# EAGLE library part MICROSD (library Misc)
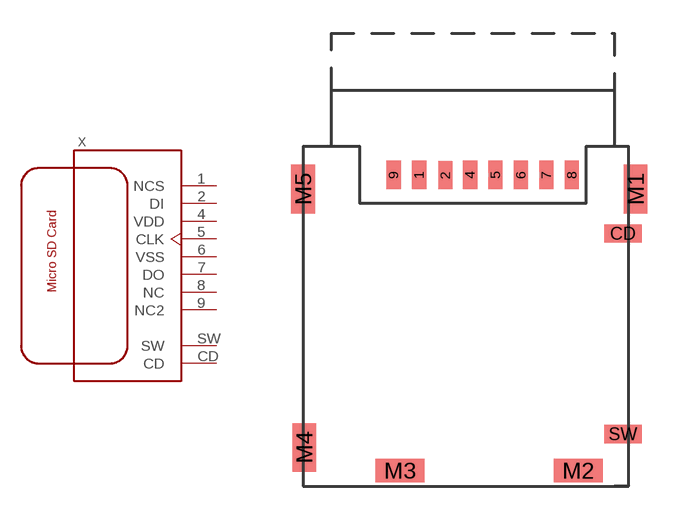
[diagram p2: symbol with the pads of MICROSD; footprint MICROSD]

Designator prefix X

## MICROSDSMD  [MICROSD]
1  NCS
2  DI
4  VDD  pwr
5  CLK
6  VSS  pwr
7  DO
8  NC
9  NC2
CD  CD
SW  SW

## Footprint MICROSD (pad centres in mm)
smd 0.635 x 1.27: 1 -2.413,6.35; 2 -1.232,6.337; 4 -0.127,6.35; 5 1.016,6.35; 6 2.159,6.35; 7 3.302,6.35; 8 4.445,6.35; 9 -3.556,6.35
smd 1.676 x 0.813: CD 6.73,3.715; SW 6.73,-5.285
smd 1.067 x 2.184: M1 7.303,5.715; M4 -7.57,-5.885; M5 -7.62,5.715
smd 2.184 x 1.067: M2 4.73,-6.92; M3 -3.27,-6.92